# Altium footprint library transistor-small-signal.PCBLIB: 107 footprints (part 5 of 7)
Each footprint in its own frame and in the unit in brackets; x right, y up, seen from the top. Pads: shape width x height; smd on the part's side, far side on the other; paste and mask are expansions set on the pad; w line width, h text height; cw(c..) or ccw(c..) is an arc to the next point about the centre after c.
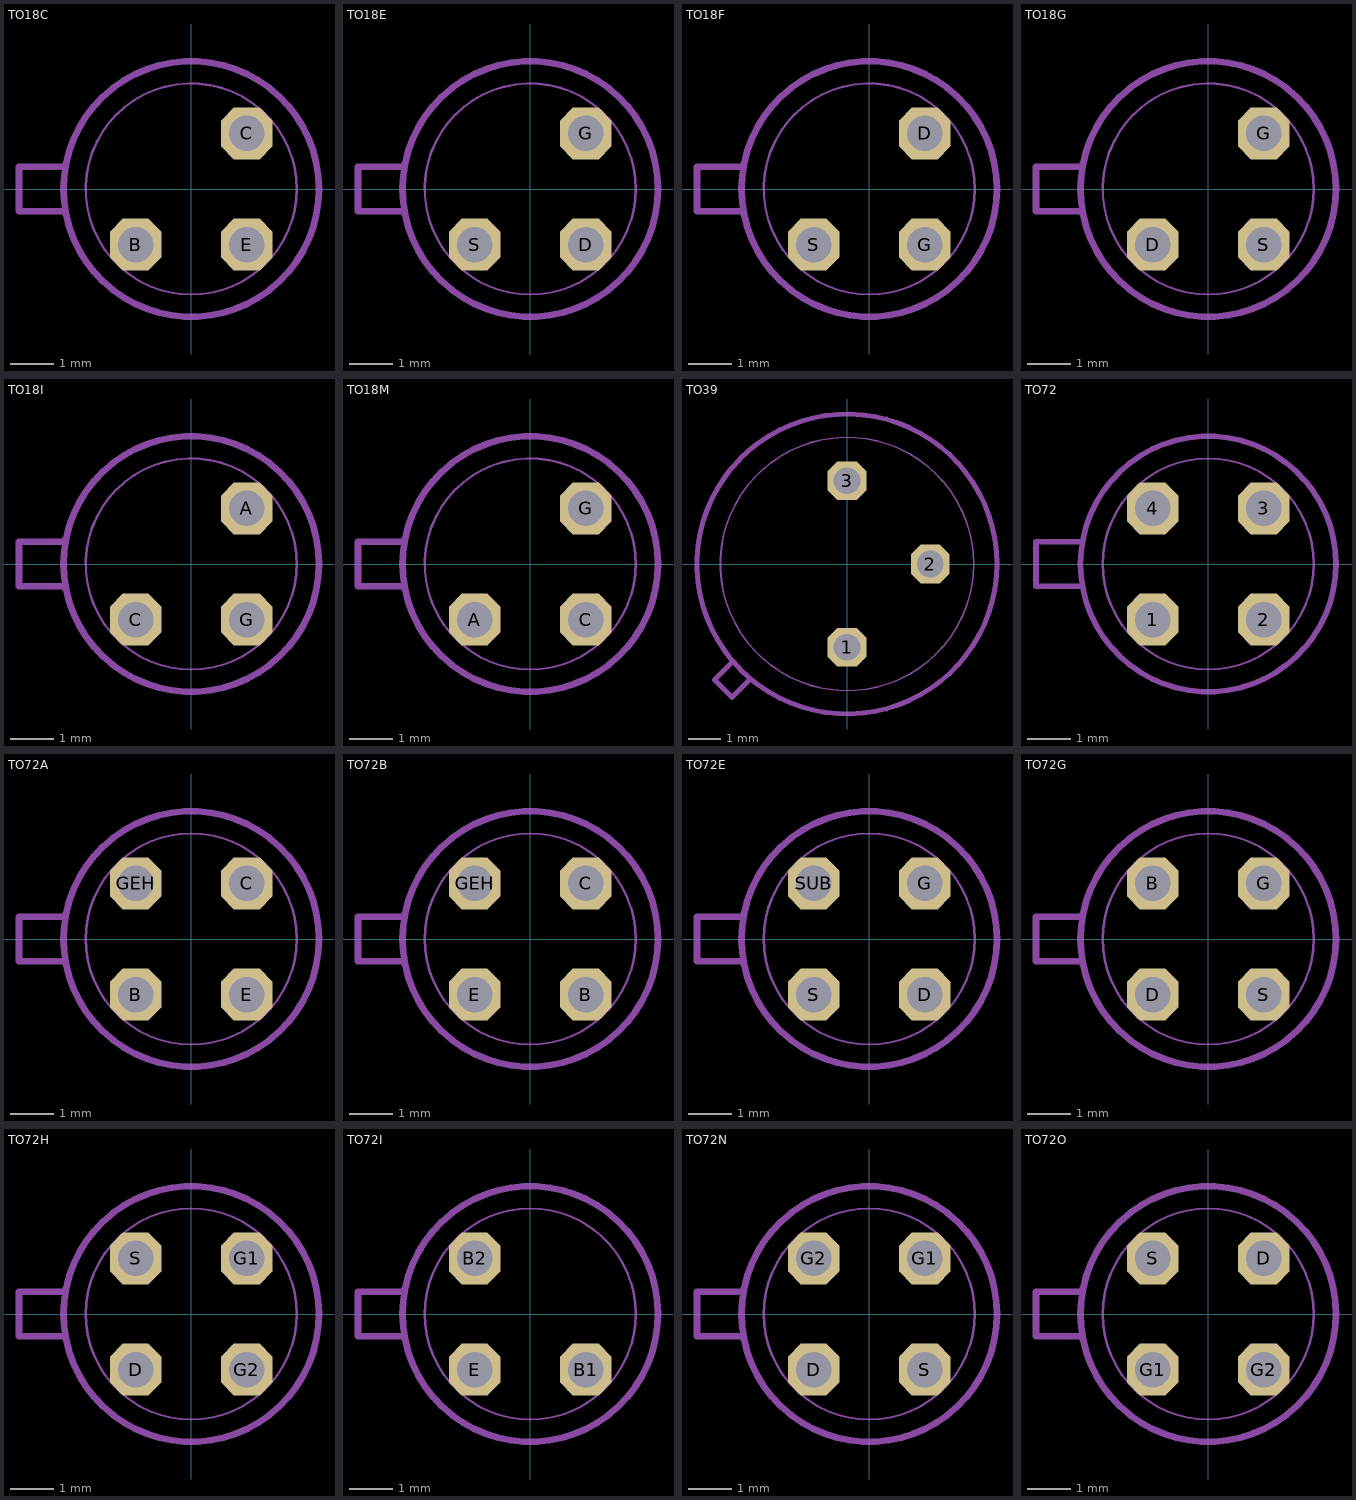
[diagram p4: the footprints below, top view; thin cyan lines are the x and y axes]

## TO18C [mil]
pads (3):
  oct 46.48x46.48 hole 32: B(-50,-50) C(50,50) E(50,-50)
Mechanical 2:
  circle w6: c0,0 r115
  lines w2: -87.68,-36.57 cw(c0,0) 36.57,87.68 ; -36.57,-87.68 ccw(c0,0) 36.57,-87.68 ; 87.68,-36.57 ccw(c0,0) 87.68,36.57
  lines w6: -113.27,-20 -155,-20 -155,20 -113.27,20
Mechanical 18:
  lines w2: -87.68,-36.57 ccw(c0,0) -36.57,-87.68 ; 36.57,-87.68 ccw(c0,0) 87.68,-36.57 ; 36.57,87.68 cw(c0,0) 87.68,36.57

## TO18E [mil]
pads (3):
  oct 46.48x46.48 hole 32: D(50,-50) G(50,50) S(-50,-50)
Mechanical 2:
  circle w6: c0,0 r115
  lines w2: -87.68,-36.57 cw(c0,0) 36.57,87.68 ; -36.57,-87.68 ccw(c0,0) 36.57,-87.68 ; 87.68,-36.57 ccw(c0,0) 87.68,36.57
  lines w6: -113.27,-20 -155,-20 -155,20 -113.27,20
Mechanical 18:
  lines w2: -87.68,-36.57 ccw(c0,0) -36.57,-87.68 ; 36.57,-87.68 ccw(c0,0) 87.68,-36.57 ; 36.57,87.68 cw(c0,0) 87.68,36.57

## TO18F [mil]
pads (3):
  oct 46.48x46.48 hole 32: D(50,50) G(50,-50) S(-50,-50)
Mechanical 2:
  circle w6: c0,0 r115
  lines w2: -87.68,-36.57 cw(c0,0) 36.57,87.68 ; -36.57,-87.68 ccw(c0,0) 36.57,-87.68 ; 87.68,-36.57 ccw(c0,0) 87.68,36.57
  lines w6: -113.27,-20 -155,-20 -155,20 -113.27,20
Mechanical 18:
  lines w2: -87.68,-36.57 ccw(c0,0) -36.57,-87.68 ; 36.57,-87.68 ccw(c0,0) 87.68,-36.57 ; 36.57,87.68 cw(c0,0) 87.68,36.57

## TO18G [mil]
pads (3):
  oct 46.48x46.48 hole 32: D(-50,-50) G(50,50) S(50,-50)
Mechanical 2:
  circle w6: c0,0 r115
  lines w2: -87.68,-36.57 cw(c0,0) 36.57,87.68 ; -36.57,-87.68 ccw(c0,0) 36.57,-87.68 ; 87.68,-36.57 ccw(c0,0) 87.68,36.57
  lines w6: -113.27,-20 -155,-20 -155,20 -113.27,20
Mechanical 18:
  lines w2: -87.68,-36.57 ccw(c0,0) -36.57,-87.68 ; 36.57,-87.68 ccw(c0,0) 87.68,-36.57 ; 36.57,87.68 cw(c0,0) 87.68,36.57

## TO18I [mil]
pads (3):
  oct 46.48x46.48 hole 32: A(50,50) C(-50,-50) G(50,-50)
Mechanical 2:
  circle w6: c0,0 r115
  lines w2: -87.68,-36.57 cw(c0,0) 36.57,87.68 ; -36.57,-87.68 ccw(c0,0) 36.57,-87.68 ; 87.68,-36.57 ccw(c0,0) 87.68,36.57
  lines w6: -113.27,-20 -155,-20 -155,20 -113.27,20
Mechanical 18:
  lines w2: -87.68,-36.57 ccw(c0,0) -36.57,-87.68 ; 36.57,-87.68 ccw(c0,0) 87.68,-36.57 ; 36.57,87.68 cw(c0,0) 87.68,36.57

## TO18M [mil]
pads (3):
  oct 46.48x46.48 hole 32: A(-50,-50) C(50,-50) G(50,50)
Mechanical 2:
  circle w6: c0,0 r115
  lines w2: -87.68,-36.57 cw(c0,0) 36.57,87.68 ; -36.57,-87.68 ccw(c0,0) 36.57,-87.68 ; 87.68,-36.57 ccw(c0,0) 87.68,36.57
  lines w6: -113.27,-20 -155,-20 -155,20 -113.27,20
Mechanical 18:
  lines w2: -87.68,-36.57 ccw(c0,0) -36.57,-87.68 ; 36.57,-87.68 ccw(c0,0) 87.68,-36.57 ; 36.57,87.68 cw(c0,0) 87.68,36.57

## TO39 [mil]
pads (3):
  oct 46.48x46.48 hole 32: 1(0,-100) 2(100,0) 3(0,100)
Mechanical 2:
  circle w6: c0,0 r180
  circle w2: c0,0 r152
  lines w6: -138,-118 -159,-139 -138,-160 -117,-139

## TO72 [mil]
pads (4):
  oct 46.48x46.48 hole 32: 1(-50,-50) 2(50,-50) 3(50,50) 4(-50,50)
Mechanical 2:
  circle w5: c0,0 r115
  lines w2: -87.68,-36.57 cw(c0,0) -87.68,36.57 ; -36.57,-87.68 ccw(c0,0) 36.57,-87.68 ; -36.57,87.68 cw(c0,0) 36.57,87.68 ; 87.68,-36.57 ccw(c0,0) 87.68,36.57
  lines w5: -114,-20 -155,-20 -155,20 -114,20
Mechanical 18:
  lines w2: -87.68,-36.57 ccw(c0,0) -36.57,-87.68 ; -87.68,36.57 cw(c0,0) -36.57,87.68 ; 36.57,-87.68 ccw(c0,0) 87.68,-36.57 ; 36.57,87.68 cw(c0,0) 87.68,36.57

## TO72A [mil]
pads (4):
  oct 46.48x46.48 hole 32: B(-50,-50) C(50,50) E(50,-50) GEH(-50,50)
Mechanical 2:
  circle w6: c0,0 r115
  lines w2: -87.68,-36.57 cw(c0,0) -87.68,36.57 ; -36.57,-87.68 ccw(c0,0) 36.57,-87.68 ; -36.57,87.68 cw(c0,0) 36.57,87.68 ; 87.68,-36.57 ccw(c0,0) 87.68,36.57
  lines w6: -114,-20 -155,-20 -155,20 -114,20
Mechanical 18:
  lines w2: -87.68,-36.57 ccw(c0,0) -36.57,-87.68 ; -87.68,36.57 cw(c0,0) -36.57,87.68 ; 36.57,-87.68 ccw(c0,0) 87.68,-36.57 ; 36.57,87.68 cw(c0,0) 87.68,36.57

## TO72B [mil]
pads (4):
  oct 46.48x46.48 hole 32: B(50,-50) C(50,50) E(-50,-50) GEH(-50,50)
Mechanical 2:
  circle w6: c0,0 r115
  lines w2: -87.68,-36.57 cw(c0,0) -87.68,36.57 ; -36.57,-87.68 ccw(c0,0) 36.57,-87.68 ; -36.57,87.68 cw(c0,0) 36.57,87.68 ; 87.68,-36.57 ccw(c0,0) 87.68,36.57
  lines w6: -114,-20 -155,-20 -155,20 -114,20
Mechanical 18:
  lines w2: -87.68,-36.57 ccw(c0,0) -36.57,-87.68 ; -87.68,36.57 cw(c0,0) -36.57,87.68 ; 36.57,-87.68 ccw(c0,0) 87.68,-36.57 ; 36.57,87.68 cw(c0,0) 87.68,36.57

## TO72E [mil]
pads (4):
  oct 46.48x46.48 hole 32: D(50,-50) G(50,50) S(-50,-50) SUB(-50,50)
Mechanical 2:
  circle w6: c0,0 r115
  lines w2: -87.68,-36.57 cw(c0,0) -87.68,36.57 ; -36.57,-87.68 ccw(c0,0) 36.57,-87.68 ; -36.57,87.68 cw(c0,0) 36.57,87.68 ; 87.68,-36.57 ccw(c0,0) 87.68,36.57
  lines w6: -114,-20 -155,-20 -155,20 -114,20
Mechanical 18:
  lines w2: -87.68,-36.57 ccw(c0,0) -36.57,-87.68 ; -87.68,36.57 cw(c0,0) -36.57,87.68 ; 36.57,-87.68 ccw(c0,0) 87.68,-36.57 ; 36.57,87.68 cw(c0,0) 87.68,36.57

## TO72G [mil]
pads (4):
  oct 46.48x46.48 hole 32: B(-50,50) D(-50,-50) G(50,50) S(50,-50)
Mechanical 2:
  circle w6: c0,0 r115
  lines w2: -87.68,-36.57 cw(c0,0) -87.68,36.57 ; -36.57,-87.68 ccw(c0,0) 36.57,-87.68 ; -36.57,87.68 cw(c0,0) 36.57,87.68 ; 87.68,-36.57 ccw(c0,0) 87.68,36.57
  lines w6: -114,-20 -155,-20 -155,20 -114,20
Mechanical 18:
  lines w2: -87.68,-36.57 ccw(c0,0) -36.57,-87.68 ; -87.68,36.57 cw(c0,0) -36.57,87.68 ; 36.57,-87.68 ccw(c0,0) 87.68,-36.57 ; 36.57,87.68 cw(c0,0) 87.68,36.57

## TO72H [mil]
pads (4):
  oct 46.48x46.48 hole 32: D(-50,-50) G1(50,50) G2(50,-50) S(-50,50)
Mechanical 2:
  circle w6: c0,0 r115
  lines w2: -87.68,-36.57 cw(c0,0) -87.68,36.57 ; -36.57,-87.68 ccw(c0,0) 36.57,-87.68 ; -36.57,87.68 cw(c0,0) 36.57,87.68 ; 87.68,-36.57 ccw(c0,0) 87.68,36.57
  lines w6: -114,-20 -155,-20 -155,20 -114,20
Mechanical 18:
  lines w2: -87.68,-36.57 ccw(c0,0) -36.57,-87.68 ; -87.68,36.57 cw(c0,0) -36.57,87.68 ; 36.57,-87.68 ccw(c0,0) 87.68,-36.57 ; 36.57,87.68 cw(c0,0) 87.68,36.57

## TO72I [mil]
pads (3):
  oct 46.48x46.48 hole 32: B1(50,-50) B2(-50,50) E(-50,-50)
Mechanical 2:
  circle w6: c0,0 r115
  lines w2: -87.68,-36.57 cw(c0,0) -87.68,36.57 ; -36.57,-87.68 ccw(c0,0) 36.57,-87.68 ; -36.57,87.68 cw(c0,0) 36.57,87.68 ; 87.68,-36.57 ccw(c0,0) 87.68,36.57
  lines w6: -114,-20 -155,-20 -155,20 -114,20
Mechanical 18:
  lines w2: -87.68,-36.57 ccw(c0,0) -36.57,-87.68 ; -87.68,36.57 cw(c0,0) -36.57,87.68 ; 36.57,-87.68 ccw(c0,0) 87.68,-36.57 ; 36.57,87.68 cw(c0,0) 87.68,36.57

## TO72N [mil]
pads (4):
  oct 46.48x46.48 hole 32: D(-50,-50) G1(50,50) G2(-50,50) S(50,-50)
Mechanical 2:
  circle w6: c0,0 r115
  lines w2: -87.68,-36.57 cw(c0,0) -87.68,36.57 ; -36.57,-87.68 ccw(c0,0) 36.57,-87.68 ; -36.57,87.68 cw(c0,0) 36.57,87.68 ; 87.68,-36.57 ccw(c0,0) 87.68,36.57
  lines w6: -114,-20 -155,-20 -155,20 -114,20
Mechanical 18:
  lines w2: -87.68,-36.57 ccw(c0,0) -36.57,-87.68 ; -87.68,36.57 cw(c0,0) -36.57,87.68 ; 36.57,-87.68 ccw(c0,0) 87.68,-36.57 ; 36.57,87.68 cw(c0,0) 87.68,36.57

## TO72O [mil]
pads (4):
  oct 46.48x46.48 hole 32: D(50,50) G1(-50,-50) G2(50,-50) S(-50,50)
Mechanical 2:
  circle w6: c0,0 r115
  lines w2: -87.68,-36.57 cw(c0,0) -87.68,36.57 ; -36.57,-87.68 ccw(c0,0) 36.57,-87.68 ; -36.57,87.68 cw(c0,0) 36.57,87.68 ; 87.68,-36.57 ccw(c0,0) 87.68,36.57
  lines w6: -114,-20 -155,-20 -155,20 -114,20
Mechanical 18:
  lines w2: -87.68,-36.57 ccw(c0,0) -36.57,-87.68 ; -87.68,36.57 cw(c0,0) -36.57,87.68 ; 36.57,-87.68 ccw(c0,0) 87.68,-36.57 ; 36.57,87.68 cw(c0,0) 87.68,36.57